# Altium footprint library Connectors.PcbLib: 13 footprints
Each footprint in its own frame and in the unit in brackets; x right, y up, seen from the top. Pads: shape width x height; smd on the part's side, far side on the other; paste and mask are expansions set on the pad; w line width, h text height; cw(c..) or ccw(c..) is an arc to the next point about the centre after c.
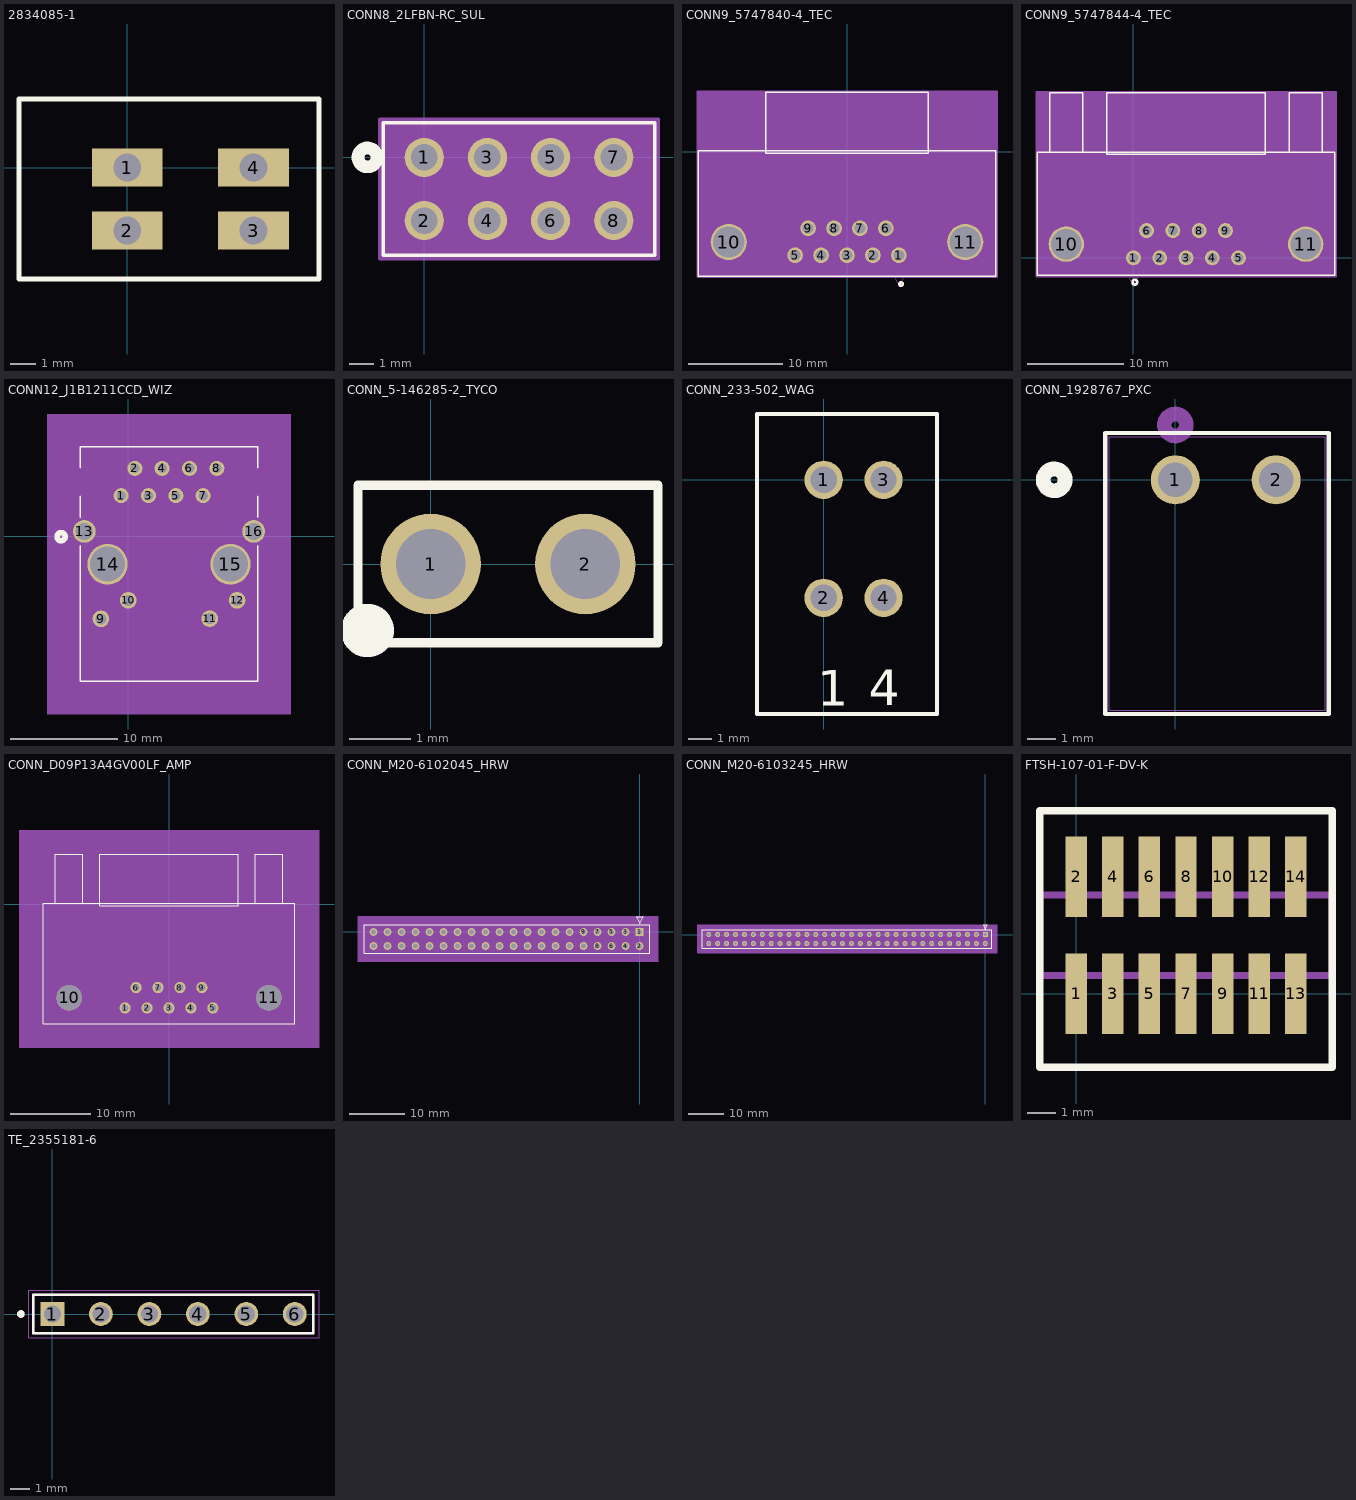
[diagram p0: the footprints below, top view; thin cyan lines are the x and y axes]

## 2834085-1 [mm]
pads (4):
  rect 2.8x1.5 hole 1.1: 1(0,0) 2(0,-2.5) 3(5,-2.5) 4(5,0)
Top Overlay:
  lines w0.2: -4.293,-4.42 -4.293,2.718 7.595,2.718 7.595,-4.42 -4.293,-4.42
Top Designator:
  text ".Designator" at -6.046,-1.359 h1.52
3D body "c-2834085-1-a-3d.stp": height 11.58, standoff -4, extent -4.551,-4.496 7.549,2.684

## CONN8_2LFBN-RC_SUL [mil]
pads (8):
  round 62 hole 42 mask+0: 1(0,0) 2(0,-100) 3(100,0) 4(100,-100) 5(200,0) 6(200,-100) 7(300,0) 8(300,-100)
Top Overlay:
  circle w20: c-90,0 r15
  lines w6: -65,-155 365,-155 365,55 -65,55 -65,-155
Bottom Overlay:
  circle w20: c-90,0 r15
Top Designator:
  text ".Designator" at -170.9,-69.99 h60
Mechanical 5:
  region: -65,55 365,55 365,-155 -65,-155
Mechanical 13:
  lines w1: -60,-150 360,-150 360,50 -60,50 -60,-150
Mechanical 15:
  region: 370,60 -70,60 -70,-160 370,-160
  lines w6: -70,-160 -70,60 370,60 370,-160 -70,-160
3D body: height 10, standoff 0, extent 0,0 10,10
3D body "CONN8_2LFBN-RC_SUL.STEP": height 334.65, standoff -118.11, extent -60.84,-149.43 358.84,47.43

## CONN9_5747840-4_TEC [mil]
pads (11):
  round 65 hole 45 mask+0: 1(216,-430) 2(108,-430) 3(0,-430) 4(-108,-430) 5(-216,-430) 6(162,-318) 7(54,-318) 8(-54,-318) 9(-162,-318)
  round 150 hole 130: 10(-492,-375) 11(492,-375)
Top Overlay:
  circle w10: c225,-550 r7
  lines w6: -619,-517 -619,5 619,5 619,-517 -619,-517 ; -338,-5 -338,248 338,248 338,-5 -338,-5
Top Designator:
  text ".Designator" at -299.9,-173.24 h60
Mechanical 13:
  lines w1: 193,-512 218,-562 243,-512 ; -614,-512 -614,0 614,0 614,-512 -614,-512 ; -333,0 -333,243 333,243 333,0 -333,0
Mechanical 15:
  region: 624,-522 624,253 -624,253 -624,-522
  lines w6: -624,-522 624,-522 624,253 -624,253 -624,-522
3D body: height 10, standoff 0, extent 0,0 10,10
3D body "c-5747840-4-d-3d.stp": height 455.66, standoff -166.74, extent -611,-508 611,224.4

## CONN9_5747844-4_TEC [mil]
pads (11):
  round 61 hole 41 mask+0: 1(0,0) 2(108,0) 3(216,0) 4(324,0) 5(432,0) 6(54,112) 7(162,112) 8(270,112) 9(378,112)
  round 145 hole 125: 10(-276,56) 11(708,56)
Top Overlay:
  circle w10: c6,-100 r10
  lines w6: -343.5,435 -343.5,678 -208.5,678 -208.5,435 ; 640.5,435 640.5,678 775.5,678 775.5,435 ; -395.5,-72 827.5,-72 827.5,435 -395.5,435 -395.5,-72 ; -110.5,425 542.5,425 542.5,678 -110.5,678 -110.5,425
Top Designator:
  text ".Designator" at -83.9,264.26 h60
Mechanical 13:
  lines w1: -338.5,430 -338.5,673 -213.5,673 -213.5,430 ; -307.25,430 -307.25,673 ; -244.75,430 -244.75,673 ; -25,-67 0,-117 25,-67 ; 645.5,430 645.5,673 770.5,673 770.5,430 ; 676.75,430 676.75,673 ; 739.25,430 739.25,673 ; -390.5,-67 822.5,-67 822.5,430 -390.5,430 -390.5,-67 ; -105.5,430 537.5,430 537.5,673 -105.5,673 -105.5,430
Mechanical 15:
  region: 832.5,-77 832.5,683 -400.5,683 -400.5,-77
  lines w6: -400.5,-77 -400.5,683 832.5,683 832.5,-77 -400.5,-77
3D body: height 10, standoff 0, extent 0,0 10,10
3D body "c-5747844-04-o-3d.stp": height 502.91, standoff -119.49, extent -397,-66.4 823,677.5

## CONN12_J1B1211CCD_WIZ [mil]
pads (16):
  round 55 hole 35 mask+0: 1(-25,149.21) 2(25,249.21) 3(75,149.21) 4(125,249.21) 5(175,149.21) 6(225,249.21) 7(275,149.21) 8(325,249.21)
  round 61 hole 41: 9(-99.02,-301.57) 10(0.98,-233.86) 11(299.02,-300.79) 12(399.02,-233.86)
  round 83 hole 63: 13(-160.04,18.5) 16(460.04,18.5)
  round 148 hole 128: 14(-75,-101.57) 15(375,-101.57)
Top Overlay:
  circle w20: c-245,-0.79 r15
  lines w6: -175,-34.01 -175,-529.79 475,-529.79 475,-34.01 ; -175,71.01 -175,146.7 ; -175,251.72 -175,328.21 475,328.21 475,251.72 ; 475,71.01 475,146.7
Bottom Overlay:
  circle w20: c-245,-0.79 r15
Top Designator:
  text ".Designator" at -149.9,-120.78 h60
Mechanical 5:
  region: -295,448.21 595,448.21 595,-649.79 -295,-649.79
Mechanical 13:
  circle w20: c0,74.21 r15
  lines w1: -170,-524.79 470,-524.79 470,323.21 -170,323.21 -170,-524.79
Mechanical 15:
  region: -180,-33 -180,-534.79 480,-534.79 480,-33 511.54,-33 511.54,70 480,70 480,333.21 -180,333.21 -180,70 -211.54,70 -211.54,-33
  lines w6: -211.54,-33 -211.54,70 -180,70 -180,333.21 480,333.21 480,70 511.54,70 511.54,-33 480,-33 480,-534.79 -180,-534.79 -180,-33 -211.54,-33
3D body: height 10, standoff 0, extent 0,0 10,10
3D body "J1B1211CCD.STEP": height 565.33, standoff -155.51, extent -204.7,-518.29 504.7,320.3

## CONN_5-146285-2_TYCO [mil]
pads (2):
  round 65 hole 45: 1(0,0) 2(100,0)
Top Overlay:
  circle w30: c-41,-43 r2.24
  lines w6: -47,-51 147,-51 147,51 -47,51 -47,-51
Top Designator:
  text ".Designator" at -254.02,-23.11 h60
3D body: height 10, standoff 0, extent 0,0 10,10
3D body "c-5-146285-2-f-3d.stp": height 320.47, standoff -89.61, extent -42,-45 142,47

## CONN_233-502_WAG [mil]
pads (4):
  round 64 hole 44 mask+0: 1(0,0) 2(0,-196.85) 3(100,0) 4(100,-196.85)
Top Overlay:
  lines w6: -111.3,-390.83 189.25,-390.83 189.25,110 -111.3,110 -111.3,-390.83
  text "1" at -11,-377 h60
  text "4" at 75,-376 h60
Top Designator:
  text ".Designator" at -260.93,-160.41 h60
3D body "WAGO 233-502.STEP": height 647.23, standoff -157.48, extent -105.28,-385 185.28,100.2

## CONN_1928767_PXC [mil]
pads (2):
  round 67 hole 47 mask+0: 1(0,0) 2(137.8,0)
Top Overlay:
  circle w20: c-165.55,0 r15
  lines w6: -95.55,-319.96 209.73,-319.96 209.73,64.06 -95.55,64.06 -95.55,-319.96
Bottom Overlay:
  circle w20: c-165.55,0 r15
Top Designator:
  text ".Designator" at -288.82,-131.47 h60
Mechanical 13:
  circle w20: c0,75 r15
  lines w1: -90.55,-314.96 204.73,-314.96 204.73,59.06 -90.55,59.06 -90.55,-314.96
3D body "1928767.stp": height 334.65, standoff -157.48, extent -91.27,-316.01 204,58.01
3D body: height 10, standoff 0, extent 0,0 10,10

## CONN_D09P13A4GV00LF_AMP [mil]
pads (11):
  round 55 hole 35 mask+0: 1(-216,-509.45) 2(-108,-509.45) 3(0,-509.45) 4(108,-509.45) 5(216,-509.45) 6(-162,-409.45) 7(-54,-409.45) 8(54,-409.45) 9(162,-409.45)
  round 126 hole 126 unplated: 10(-492,-459.45) 11(492,-459.45)
Top Overlay:
  lines w6: -560,5 -560,247 -424,247 -424,5 ; 424,5 424,247 560,247 560,5 ; -619,-587 -619,5 619,5 619,-587 -619,-587 ; -340.5,-5 -340.5,247 340.5,247 340.5,-5 -340.5,-5
Top Designator:
  text ".Designator" at -299.9,-189.99 h60
Mechanical 5:
  region: -739,367 739,367 739,-707 -739,-707
Mechanical 13:
  lines w1: -555,0 -555,242 -429,242 -429,0 ; -523.5,0 -523.5,242 ; -460.5,0 -460.5,242 ; -241,-582 -216,-632 -191,-582 ; 429,0 429,242 555,242 555,0 ; 460.5,0 460.5,242 ; 523.5,0 523.5,242 ; -614,-582 -614,0 614,0 614,-582 -614,-582 ; -335.5,0 -335.5,242 335.5,242 335.5,0 -335.5,0
Mechanical 15:
  region: 624,-592 624,252 -624,252 -624,-592
  lines w6: -624,-592 624,-592 624,252 -624,252 -624,-592
3D body: height 10, standoff 0, extent 0,0 10,10
3D body "CONN_D09P13A4GV00LF_AMP.step": height 545.98, standoff -125, extent -614.02,-581.61 614.02,242.4

## CONN_M20-6102045_HRW [mil]
pads (40):
  rect 56x56 hole 36 mask+0: 1(0,0)
  round 56 hole 36 mask+0: 2(0,-100) 3(-100,0) 4(-100,-100) 5(-200,0) 6(-200,-100) 7(-300,0) 8(-300,-100) 9(-400,0) 10(-400,-100) 11(-500,0) 12(-500,-100) 13(-600,0) 14(-600,-100) 15(-700,0) 16(-700,-100) 17(-800,0) 18(-800,-100) 19(-900,0) 20(-900,-100) 21(-1000,0) 22(-1000,-100) 23(-1100,0) 24(-1100,-100) 25(-1200,0) 26(-1200,-100) 27(-1300,0) 28(-1300,-100) 29(-1400,0) 30(-1400,-100) 31(-1500,0) 32(-1500,-100) 33(-1600,0) 34(-1600,-100) 35(-1700,0) 36(-1700,-100) 37(-1800,0) 38(-1800,-100) 39(-1900,0) 40(-1900,-100)
Top Overlay:
  lines w6: -1967,-153.5 -1967,53.5 74,53.5 74,-153.5 -1967,-153.5 ; -25,108.5 25,108.5 0,58.5 -25,108.5
Top Designator:
  text ".Designator" at -1239.65,-75.99 h60
Mechanical 5:
  region: 131.5,-211 -2011,-211 -2011,111 131.5,111
Mechanical 7:
Mechanical 13:
  lines w1: -1960,-148.5 69,-148.5 69,48.5 -1955,48.5 ; -25,108.5 25,108.5 0,58.5 -25,108.5
3D body: height 10, standoff 0, extent 0,0 10,10
3D body "m20-6102045_asm.stp": height 448.82, standoff -473.23, extent -1966.99,-148.85 58.99,48

## CONN_M20-6103245_HRW [mil]
pads (64):
  rect 56x56 hole 36 mask+0: 1(0,0)
  round 56 hole 36 mask+0: 2(0,-100) 3(-100,0) 4(-100,-100) 5(-200,0) 6(-200,-100) 7(-300,0) 8(-300,-100) 9(-400,0) 10(-400,-100) 11(-500,0) 12(-500,-100) 13(-600,0) 14(-600,-100) 15(-700,0) 16(-700,-100) 17(-800,0) 18(-800,-100) 19(-900,0) 20(-900,-100) 21(-1000,0) 22(-1000,-100) 23(-1100,0) 24(-1100,-100) 25(-1200,0) 26(-1200,-100) 27(-1300,0) 28(-1300,-100) 29(-1400,0) 30(-1400,-100) 31(-1500,0) 32(-1500,-100) 33(-1600,0) 34(-1600,-100) 35(-1700,0) 36(-1700,-100) 37(-1800,0) 38(-1800,-100) 39(-1900,0) 40(-1900,-100) 41(-2000,0) 42(-2000,-100) 43(-2100,0) 44(-2100,-100) 45(-2200,0) 46(-2200,-100) 47(-2300,0) 48(-2300,-100) 49(-2400,0) 50(-2400,-100) 51(-2500,0) 52(-2500,-100) 53(-2600,0) 54(-2600,-100) 55(-2700,0) 56(-2700,-100) 57(-2800,0) 58(-2800,-100) 59(-2900,0) 60(-2900,-100) 61(-3000,0) 62(-3000,-100) 63(-3100,0) 64(-3100,-100)
Top Overlay:
  lines w6: -3174,-153.5 74,-153.5 74,53.5 -3174,53.5 -3174,-153.5 ; -25,108.5 0,58.5 25,108.5 -25,108.5
Top Designator:
  text ".Designator" at -1849.9,-75.99 h60
Mechanical 5:
  region: 131.5,-211 -3231.5,-211 -3231.5,111 131.5,111
Mechanical 7:
Mechanical 13:
  lines w1: -3169,-148.5 69,-148.5 69,48.5 -3169,48.5 -3169,-148.5 ; -25,108.5 0,58.5 25,108.5 -25,108.5
Mechanical 15:
  region: 79,58.5 -3179,58.5 -3179,-158.5 79,-158.5
  lines w6: -3179,-158.5 -3179,58.5 79,58.5 79,-158.5 -3179,-158.5
3D body: height 10, standoff 0, extent 0,0 10,10
3D body "m20-6103245_asm.stp": height 433.07, standoff -488.98, extent -3160.99,-155.85 64.99,41

## FTSH-107-01-F-DV-K [mm] "CONN HEADER SMD 14POS 1.27MM"
pads (14):
  rect 0.74x2.79 smd: 1(0,0) 2(0,4.07) 3(1.27,0) 4(1.27,4.07) 5(2.54,0) 6(2.54,4.07) 7(3.81,0) 8(3.81,4.07) 9(5.08,0) 10(5.08,4.07) 11(6.35,0) 12(6.35,4.07) 13(7.62,0) 14(7.62,4.07)
Top Overlay:
  lines w0.254: -1.27,-2.54 -1.27,6.35 8.89,6.35 8.89,-2.54 0,-2.54 -1.27,-2.54
Top Designator:
  text ".Designator" at -3.808,1.397 h1.52
Mechanical 13:
  lines w0.254: -1.27,0.64 -1.27,3.43 8.89,3.43 8.89,0.64 -1.27,0.64
3D body "FTSH-107-01-F-DV-K.stp": height 5.96, standoff -0.16, extent -0.645,-0.946 8.245,4.896

## TE_2355181-6 [mm]
pads (6):
  rect 1.25x1.25 hole 0.9: 1(0,0)
  round 1.25 hole 0.9: 2(2.54,0) 3(5.08,0) 4(7.62,0) 5(10.16,0) 6(12.7,0)
Top Overlay:
  circle w0.2: c-1.65,0 r0.1
  lines w0.127: -1,-1 13.665,-1 13.665,1 -1,1 -1,-1
Top Designator:
  text ".Designator" at -1.545,-0.518 h1.52
Mechanical 13:
  circle w0.2: c-1.65,0 r0.1
  lines w0.127: 11,-1 -1,-1 ; -1,-1 13.665,-1 13.665,1 -1,1 -1,-1
Mechanical 15:
  lines w0.05: -1.25,-1.25 13.97,-1.25 13.97,1.25 -1.25,1.25 -1.25,-1.25
3D body "71071831.stp": height 8.57, standoff -2.97, extent -1.321,-1.295 13.919,1.245